# EAGLE library part FDFMA2P857 (library fairchild)
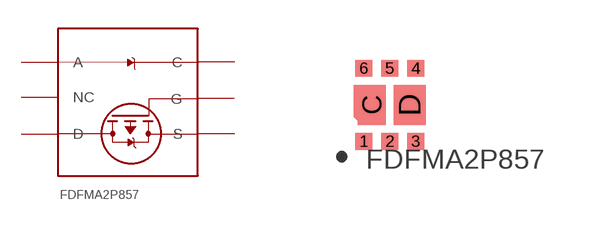
[diagram p0: symbol with the pads of FDFMA2P857; footprint FDFMA2P857]

Designator prefix -

## FDFMA2P857  [FDFMA2P857]
1  A
2  NC
3  D
4  S
5  G
6  C
C  C
D  D

## Footprint FDFMA2P857 (pad centres in mm)
smd 0.42 x 0.42: 1 -0.65,-0.915; 2 0,-0.915; 3 0.65,-0.915; 4 0.65,0.915; 5 0,0.915; 6 -0.65,0.915
smd 0.7 x 1: C -0.45,0
smd 0.8 x 1: D 0.5,0